# Altium schematic symbol library PH1-02-UA.SchLib: 1 symbol
Pins are listed as number, name and electrical type; pins without a type are passive.

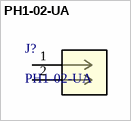
[diagram p0: symbol PH1-02-UA]

## PH1-02-UA
designator J?
No Description Available; Manufacturer_Name: ADAM TECHNOLOGIES INC; Type: Headers, Male Pins; Copyright: Copyright (C) 2026 Ultra Librarian. All rights reserved.; Manufacturer_Part_Number: PH1-02-UA; Digi-Key_Part_Number_1: 2057-PH1-02-UA-ND; RefDes: RefDes
footprint CONN_PH1-02-UA_ADM
pins: 1, 2